# Altium footprint library 610 3xx 218 21.PcbLib: 12 footprints
Each footprint in its own frame and in the unit in brackets; x right, y up, seen from the top. Pads: shape width x height; smd on the part's side, far side on the other; paste and mask are expansions set on the pad; w line width, h text height; cw(c..) or ccw(c..) is an arc to the next point about the centre after c.
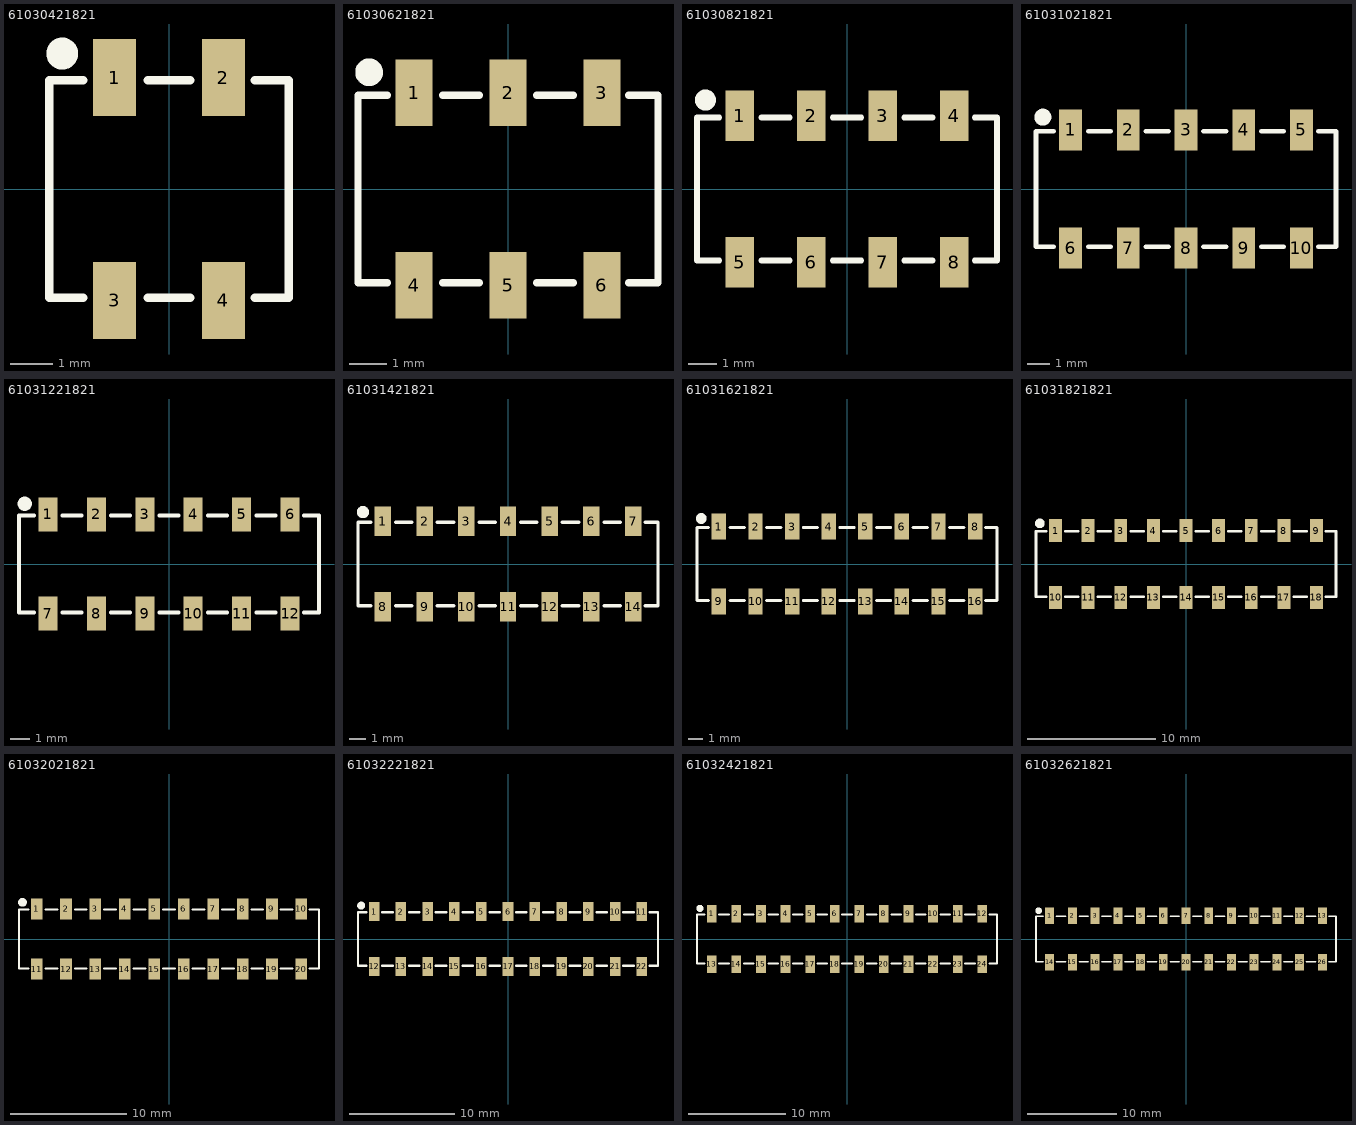
[diagram p0: the footprints below, top view; thin cyan lines are the x and y axes]

## 61030421821 [mm] "Dual SMT Socket Header 2.54mm, 4 pins"
height 7.45
pads (4):
  rect 1x1.8 smd: 1(-1.27,2.6) 2(1.27,2.6) 3(-1.27,-2.6) 4(1.27,-2.6)
Top Overlay:
  circle w0.5: c-2.49,3.16 r0.122
  lines w0.2: -2,-2.54 -2.79,-2.54 -2.79,2.54 -2,2.54 ; -0.5,-2.54 0.5,-2.54 ; -0.5,2.54 0.5,2.54 ; 2,-2.54 2.79,-2.54 2.79,2.54 2,2.54
3D body "61030421821.stp": height 7.42, standoff -0.03, extent -2.79,-3.35 2.79,3.35

## 61030621821 [mm] "Dual SMT Socket Header 2.54mm, 6 pins"
height 7.45
pads (6):
  rect 1x1.8 smd: 1(-2.54,2.6) 2(0,2.6) 3(2.54,2.6) 4(-2.54,-2.6) 5(0,-2.6) 6(2.54,-2.6)
Top Overlay:
  circle w0.5: c-3.76,3.16 r0.122
  lines w0.2: -3.27,-2.54 -4.06,-2.54 -4.06,2.54 -3.27,2.54 ; -1.77,-2.54 -0.77,-2.54 ; -1.77,2.54 -0.77,2.54 ; 0.77,-2.54 1.77,-2.54 ; 0.77,2.54 1.77,2.54 ; 3.27,-2.54 4.06,-2.54 4.06,2.54 3.27,2.54
3D body "61030621821.stp": height 7.42, standoff -0.02, extent -4.06,-3.35 4.06,3.35

## 61030821821 [mm] "Dual SMT Socket Header 2.54mm, 8 pins"
height 7.45
pads (8):
  rect 1x1.8 smd: 1(-3.81,2.6) 2(-1.27,2.6) 3(1.27,2.6) 4(3.81,2.6) 5(-3.81,-2.6) 6(-1.27,-2.6) 7(1.27,-2.6) 8(3.81,-2.6)
Top Overlay:
  circle w0.5: c-5.03,3.16 r0.122
  lines w0.2: -4.54,-2.54 -5.33,-2.54 -5.33,2.54 -4.54,2.54 ; -3.04,-2.54 -2.04,-2.54 ; -3.04,2.54 -2.04,2.54 ; -0.5,-2.54 0.5,-2.54 ; -0.5,2.54 0.5,2.54 ; 2.04,-2.54 3.04,-2.54 ; 2.04,2.54 3.04,2.54 ; 4.54,-2.54 5.33,-2.54 5.33,2.54 4.54,2.54
3D body "61030821821.stp": height 7.42, standoff -0.02, extent -5.33,-3.35 5.33,3.35

## 61031021821 [mm] "Dual SMT Socket Header 2.54mm, 10 pins"
height 7.45
pads (10):
  rect 1x1.8 smd: 1(-5.08,2.6) 2(-2.54,2.6) 3(0,2.6) 4(2.54,2.6) 5(5.08,2.6) 6(-5.08,-2.6) 7(-2.54,-2.6) 8(0,-2.6) 9(2.54,-2.6) 10(5.08,-2.6)
Top Overlay:
  circle w0.5: c-6.3,3.16 r0.122
  lines w0.2: -5.81,-2.54 -6.6,-2.54 -6.6,2.54 -5.81,2.54 ; -4.31,-2.54 -3.31,-2.54 ; -4.31,2.54 -3.31,2.54 ; -1.77,-2.54 -0.77,-2.54 ; -1.77,2.54 -0.77,2.54 ; 0.77,-2.54 1.77,-2.54 ; 0.77,2.54 1.77,2.54 ; 3.31,-2.54 4.31,-2.54 ; 3.31,2.54 4.31,2.54 ; 5.81,-2.54 6.6,-2.54 6.6,2.54 5.81,2.54
3D body "61031021821.stp": height 7.42, standoff -0.03, extent -6.6,-3.35 6.6,3.35

## 61031221821 [mm] "Dual SMT Socket Header 2.54mm, 12 pins"
height 7.45
pads (12):
  rect 1x1.8 smd: 1(-6.35,2.6) 2(-3.81,2.6) 3(-1.27,2.6) 4(1.27,2.6) 5(3.81,2.6) 6(6.35,2.6) 7(-6.35,-2.6) 8(-3.81,-2.6) 9(-1.27,-2.6) 10(1.27,-2.6) 11(3.81,-2.6) 12(6.35,-2.6)
Top Overlay:
  circle w0.5: c-7.57,3.16 r0.122
  lines w0.2: -7.08,-2.54 -7.87,-2.54 -7.87,2.54 -7.08,2.54 ; -5.58,-2.54 -4.58,-2.54 ; -5.58,2.54 -4.58,2.54 ; -3.04,-2.54 -2.04,-2.54 ; -3.04,2.54 -2.04,2.54 ; -0.5,-2.54 0.5,-2.54 ; -0.5,2.54 0.5,2.54 ; 2.04,-2.54 3.04,-2.54 ; 2.04,2.54 3.04,2.54 ; 4.58,-2.54 5.58,-2.54 ; 4.58,2.54 5.58,2.54 ; 7.08,-2.54 7.87,-2.54 7.87,2.54 7.08,2.54
3D body "61031221821.stp": height 7.42, standoff -0.02, extent -7.87,-3.35 7.87,3.35

## 61031421821 [mm] "Dual SMT Socket Header 2.54mm, 14 pins"
height 7.45
pads (14):
  rect 1x1.8 smd: 1(-7.62,2.6) 2(-5.08,2.6) 3(-2.54,2.6) 4(0,2.6) 5(2.54,2.6) 6(5.08,2.6) 7(7.62,2.6) 8(-7.62,-2.6) 9(-5.08,-2.6) 10(-2.54,-2.6) 11(0,-2.6) 12(2.54,-2.6) 13(5.08,-2.6) 14(7.62,-2.6)
Top Overlay:
  circle w0.5: c-8.84,3.16 r0.122
  lines w0.2: -8.35,-2.54 -9.14,-2.54 -9.14,2.54 -8.35,2.54 ; -6.85,-2.54 -5.85,-2.54 ; -6.85,2.54 -5.85,2.54 ; -4.31,-2.54 -3.31,-2.54 ; -4.31,2.54 -3.31,2.54 ; -1.77,-2.54 -0.77,-2.54 ; -1.77,2.54 -0.77,2.54 ; 0.77,-2.54 1.77,-2.54 ; 0.77,2.54 1.77,2.54 ; 3.31,-2.54 4.31,-2.54 ; 3.31,2.54 4.31,2.54 ; 5.85,-2.54 6.85,-2.54 ; 5.85,2.54 6.85,2.54 ; 8.35,-2.54 9.14,-2.54 9.14,2.54 8.35,2.54
3D body "61031421821.stp": height 7.42, standoff -0.02, extent -9.14,-3.35 9.14,3.35

## 61031621821 [mm] "Dual SMT Socket Header 2.54mm, 16 pins"
height 7.45
pads (16):
  rect 1x1.8 smd: 1(-8.89,2.6) 2(-6.35,2.6) 3(-3.81,2.6) 4(-1.27,2.6) 5(1.27,2.6) 6(3.81,2.6) 7(6.35,2.6) 8(8.89,2.6) 9(-8.89,-2.6) 10(-6.35,-2.6) 11(-3.81,-2.6) 12(-1.27,-2.6) 13(1.27,-2.6) 14(3.81,-2.6) 15(6.35,-2.6) 16(8.89,-2.6)
Top Overlay:
  circle w0.5: c-10.11,3.16 r0.122
  lines w0.2: -9.62,-2.54 -10.41,-2.54 -10.41,2.54 -9.62,2.54 ; -8.12,-2.54 -7.12,-2.54 ; -8.12,2.54 -7.12,2.54 ; -5.58,-2.54 -4.58,-2.54 ; -5.58,2.54 -4.58,2.54 ; -3.04,-2.54 -2.04,-2.54 ; -3.04,2.54 -2.04,2.54 ; -0.5,-2.54 0.5,-2.54 ; -0.5,2.54 0.5,2.54 ; 2.04,-2.54 3.04,-2.54 ; 2.04,2.54 3.04,2.54 ; 4.58,-2.54 5.58,-2.54 ; 4.58,2.54 5.58,2.54 ; 7.12,-2.54 8.12,-2.54 ; 7.12,2.54 8.12,2.54 ; 9.62,-2.54 10.41,-2.54 10.41,2.54 9.62,2.54
3D body "61031621821.stp": height 7.42, standoff -0.02, extent -10.41,-3.35 10.41,3.35

## 61031821821 [mm] "Dual SMT Socket Header 2.54mm, 18 pins"
height 7.45
pads (18):
  rect 1x1.8 smd: 1(-10.16,2.6) 2(-7.62,2.6) 3(-5.08,2.6) 4(-2.54,2.6) 5(0,2.6) 6(2.54,2.6) 7(5.08,2.6) 8(7.62,2.6) 9(10.16,2.6) 10(-10.16,-2.6) 11(-7.62,-2.6) 12(-5.08,-2.6) 13(-2.54,-2.6) 14(0,-2.6) 15(2.54,-2.6) 16(5.08,-2.6) 17(7.62,-2.6) 18(10.16,-2.6)
Top Overlay:
  circle w0.5: c-11.38,3.16 r0.122
  lines w0.2: -10.89,-2.54 -11.68,-2.54 -11.68,2.54 -10.89,2.54 ; -9.39,-2.54 -8.39,-2.54 ; -9.39,2.54 -8.39,2.54 ; -6.85,-2.54 -5.85,-2.54 ; -6.85,2.54 -5.85,2.54 ; -4.31,-2.54 -3.31,-2.54 ; -4.31,2.54 -3.31,2.54 ; -1.77,-2.54 -0.77,-2.54 ; -1.77,2.54 -0.77,2.54 ; 0.77,-2.54 1.77,-2.54 ; 0.77,2.54 1.77,2.54 ; 3.31,-2.54 4.31,-2.54 ; 3.31,2.54 4.31,2.54 ; 5.85,-2.54 6.85,-2.54 ; 5.85,2.54 6.85,2.54 ; 8.39,-2.54 9.39,-2.54 ; 8.39,2.54 9.39,2.54 ; 10.89,-2.54 11.68,-2.54 11.68,2.54 10.89,2.54
3D body "61031821821.stp": height 7.42, standoff -0.03, extent -11.68,-3.35 11.68,3.35

## 61032021821 [mm] "Dual SMT Socket Header 2.54mm, 20 pins"
height 7.45
pads (20):
  rect 1x1.8 smd: 1(-11.43,2.6) 2(-8.89,2.6) 3(-6.35,2.6) 4(-3.81,2.6) 5(-1.27,2.6) 6(1.27,2.6) 7(3.81,2.6) 8(6.35,2.6) 9(8.89,2.6) 10(11.43,2.6) 11(-11.43,-2.6) 12(-8.89,-2.6) 13(-6.35,-2.6) 14(-3.81,-2.6) 15(-1.27,-2.6) 16(1.27,-2.6) 17(3.81,-2.6) 18(6.35,-2.6) 19(8.89,-2.6) 20(11.43,-2.6)
Top Overlay:
  circle w0.5: c-12.65,3.16 r0.122
  lines w0.2: -12.16,-2.54 -12.95,-2.54 -12.95,2.54 -12.16,2.54 ; -10.66,-2.54 -9.66,-2.54 ; -10.66,2.54 -9.66,2.54 ; -8.12,-2.54 -7.12,-2.54 ; -8.12,2.54 -7.12,2.54 ; -5.58,-2.54 -4.58,-2.54 ; -5.58,2.54 -4.58,2.54 ; -3.04,-2.54 -2.04,-2.54 ; -3.04,2.54 -2.04,2.54 ; -0.5,-2.54 0.5,-2.54 ; -0.5,2.54 0.5,2.54 ; 2.04,-2.54 3.04,-2.54 ; 2.04,2.54 3.04,2.54 ; 4.58,-2.54 5.58,-2.54 ; 4.58,2.54 5.58,2.54 ; 7.12,-2.54 8.12,-2.54 ; 7.12,2.54 8.12,2.54 ; 9.66,-2.54 10.66,-2.54 ; 9.66,2.54 10.66,2.54 ; 12.16,-2.54 12.95,-2.54 12.95,2.54 12.16,2.54
3D body "61032021821.stp": height 7.42, standoff -0.02, extent -12.95,-3.35 12.95,3.35

## 61032221821 [mm] "Dual SMT Socket Header 2.54mm, 22 pins"
height 7.45
pads (22):
  rect 1x1.8 smd: 1(-12.7,2.6) 2(-10.16,2.6) 3(-7.62,2.6) 4(-5.08,2.6) 5(-2.54,2.6) 6(0,2.6) 7(2.54,2.6) 8(5.08,2.6) 9(7.62,2.6) 10(10.16,2.6) 11(12.7,2.6) 12(-12.7,-2.6) 13(-10.16,-2.6) 14(-7.62,-2.6) 15(-5.08,-2.6) 16(-2.54,-2.6) 17(0,-2.6) 18(2.54,-2.6) 19(5.08,-2.6) 20(7.62,-2.6) 21(10.16,-2.6) 22(12.7,-2.6)
Top Overlay:
  circle w0.5: c-13.92,3.16 r0.122
  lines w0.2: -13.43,-2.54 -14.22,-2.54 -14.22,2.54 -13.43,2.54 ; -11.93,-2.54 -10.93,-2.54 ; -11.93,2.54 -10.93,2.54 ; -9.39,-2.54 -8.39,-2.54 ; -9.39,2.54 -8.39,2.54 ; -6.85,-2.54 -5.85,-2.54 ; -6.85,2.54 -5.85,2.54 ; -4.31,-2.54 -3.31,-2.54 ; -4.31,2.54 -3.31,2.54 ; -1.77,-2.54 -0.77,-2.54 ; -1.77,2.54 -0.77,2.54 ; 0.77,-2.54 1.77,-2.54 ; 0.77,2.54 1.77,2.54 ; 3.31,-2.54 4.31,-2.54 ; 3.31,2.54 4.31,2.54 ; 5.85,-2.54 6.85,-2.54 ; 5.85,2.54 6.85,2.54 ; 8.39,-2.54 9.39,-2.54 ; 8.39,2.54 9.39,2.54 ; 10.93,-2.54 11.93,-2.54 ; 10.93,2.54 11.93,2.54 ; 13.43,-2.54 14.22,-2.54 14.22,2.54 13.43,2.54
3D body "STEP-61032221821-rev1.stp": height 7.42, standoff -0.03, extent -14.22,-3.35 14.22,3.35

## 61032421821 [mm] "Dual SMT Socket Header 2.54mm, 24 pins"
height 7.45
pads (24):
  rect 1x1.8 smd: 1(-13.97,2.6) 2(-11.43,2.6) 3(-8.89,2.6) 4(-6.35,2.6) 5(-3.81,2.6) 6(-1.27,2.6) 7(1.27,2.6) 8(3.81,2.6) 9(6.35,2.6) 10(8.89,2.6) 11(11.43,2.6) 12(13.97,2.6) 13(-13.97,-2.6) 14(-11.43,-2.6) 15(-8.89,-2.6) 16(-6.35,-2.6) 17(-3.81,-2.6) 18(-1.27,-2.6) 19(1.27,-2.6) 20(3.81,-2.6) 21(6.35,-2.6) 22(8.89,-2.6) 23(11.43,-2.6) 24(13.97,-2.6)
Top Overlay:
  circle w0.5: c-15.19,3.16 r0.122
  lines w0.2: -14.7,-2.54 -15.49,-2.54 -15.49,2.54 -14.7,2.54 ; -13.2,-2.54 -12.2,-2.54 ; -13.2,2.54 -12.2,2.54 ; -10.66,-2.54 -9.66,-2.54 ; -10.66,2.54 -9.66,2.54 ; -8.12,-2.54 -7.12,-2.54 ; -8.12,2.54 -7.12,2.54 ; -5.58,-2.54 -4.58,-2.54 ; -5.58,2.54 -4.58,2.54 ; -3.04,-2.54 -2.04,-2.54 ; -3.04,2.54 -2.04,2.54 ; -0.5,-2.54 0.5,-2.54 ; -0.5,2.54 0.5,2.54 ; 2.04,-2.54 3.04,-2.54 ; 2.04,2.54 3.04,2.54 ; 4.58,-2.54 5.58,-2.54 ; 4.58,2.54 5.58,2.54 ; 7.12,-2.54 8.12,-2.54 ; 7.12,2.54 8.12,2.54 ; 9.66,-2.54 10.66,-2.54 ; 9.66,2.54 10.66,2.54 ; 12.2,-2.54 13.2,-2.54 ; 12.2,2.54 13.2,2.54 ; 14.7,-2.54 15.49,-2.54 15.49,2.54 14.7,2.54
3D body "STEP-61032421821-rev1.stp": height 7.42, standoff -0.03, extent -15.49,-3.35 15.49,3.35

## 61032621821 [mm] "Dual SMT Socket Header 2.54mm, 26 pins"
height 7.45
pads (26):
  rect 1x1.8 smd: 1(-15.24,2.6) 2(-12.7,2.6) 3(-10.16,2.6) 4(-7.62,2.6) 5(-5.08,2.6) 6(-2.54,2.6) 7(0,2.6) 8(2.54,2.6) 9(5.08,2.6) 10(7.62,2.6) 11(10.16,2.6) 12(12.7,2.6) 13(15.24,2.6) 14(-15.24,-2.6) 15(-12.7,-2.6) 16(-10.16,-2.6) 17(-7.62,-2.6) 18(-5.08,-2.6) 19(-2.54,-2.6) 20(0,-2.6) 21(2.54,-2.6) 22(5.08,-2.6) 23(7.62,-2.6) 24(10.16,-2.6) 25(12.7,-2.6) 26(15.24,-2.6)
Top Overlay:
  circle w0.5: c-16.46,3.16 r0.122
  lines w0.2: -15.97,-2.54 -16.76,-2.54 -16.76,2.54 -15.97,2.54 ; -14.47,-2.54 -13.47,-2.54 ; -14.47,2.54 -13.47,2.54 ; -11.93,-2.54 -10.93,-2.54 ; -11.93,2.54 -10.93,2.54 ; -9.39,-2.54 -8.39,-2.54 ; -9.39,2.54 -8.39,2.54 ; -6.85,-2.54 -5.85,-2.54 ; -6.85,2.54 -5.85,2.54 ; -4.31,-2.54 -3.31,-2.54 ; -4.31,2.54 -3.31,2.54 ; -1.77,-2.54 -0.77,-2.54 ; -1.77,2.54 -0.77,2.54 ; 0.77,-2.54 1.77,-2.54 ; 0.77,2.54 1.77,2.54 ; 3.31,-2.54 4.31,-2.54 ; 3.31,2.54 4.31,2.54 ; 5.85,-2.54 6.85,-2.54 ; 5.85,2.54 6.85,2.54 ; 8.39,-2.54 9.39,-2.54 ; 8.39,2.54 9.39,2.54 ; 10.93,-2.54 11.93,-2.54 ; 10.93,2.54 11.93,2.54 ; 13.47,-2.54 14.47,-2.54 ; 13.47,2.54 14.47,2.54 ; 15.97,-2.54 16.76,-2.54 16.76,2.54 15.97,2.54
3D body "STEP-61032621821-rev1.stp": height 7.42, standoff -0.03, extent -16.76,-3.35 16.76,3.35